# EAGLE library part CC3-XXXXXR-E (library dc-dc-converter)
Isolated Module DC DC Converter 2 Output 12 ~ 15V -12 ~ -15V 125mA, 125mA 18V - 36V Input
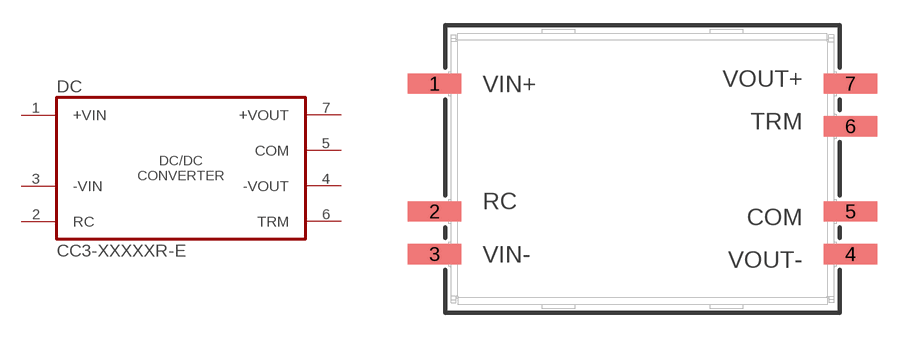
[diagram p14: symbol with the pads of CC3-XXXXXR-E; footprint CC3-XXXXXR-E]

Designator prefix DC

## CC3-XXXXXR-E  [CC3-XXXXXR-E]
1  +VIN  pas
2  RC  pas
3  -VIN  pas
4  -VOUT  pas
5  COM  pas
6  TRM  pas
7  +VOUT  pas

## Footprint CC3-XXXXXR-E (pad centres in mm)
DC DC CONVERTOR
smd 3.2 x 1.2: 1 -12.383,5.08; 2 -12.383,-2.54; 3 -12.383,-5.08; 4 12.383,-5.08; 5 12.383,-2.54; 6 12.383,2.54; 7 12.383,5.08